# EAGLE library part IC4068 (library chuong)
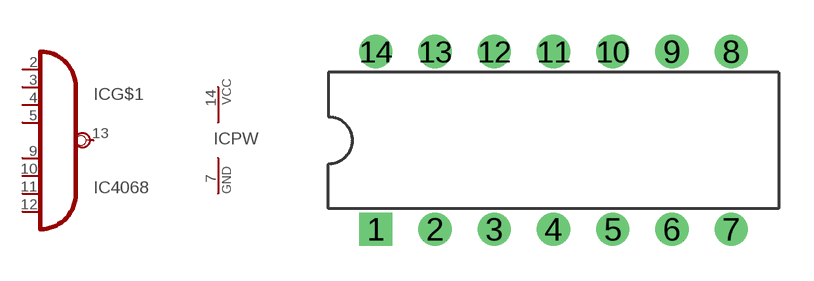
[diagram p79: symbol with the pads of DIL-14; footprint DIL-14]

Designator prefix IC; gates G$1=IC4068 PW=POWER

## IC4068  [DIL-14]
2  G$1:I0  in
3  G$1:I1  in
4  G$1:I2  in
5  G$1:I3  in
7  PW:GND  pwr
9  G$1:I4  in
10  G$1:I5  in
11  G$1:I6  in
12  G$1:I7  in
13  G$1:O  out
14  PW:VCC  pwr

## Footprint DIL-14 (pad centres in mm)
drill 0.61 pad 1.422 square: 1 -7.62,-3.81
drill 0.61 pad 1.422 round: 2 -5.08,-3.81; 3 -2.54,-3.81; 4 0,-3.81; 5 2.54,-3.81; 6 5.08,-3.81; 7 7.62,-3.81; 8 7.62,3.81; 9 5.08,3.81; 10 2.54,3.81; 11 0,3.81; 12 -2.54,3.81; 13 -5.08,3.81; 14 -7.62,3.81